# EAGLE library part TDA7052 (library KwanSystems)
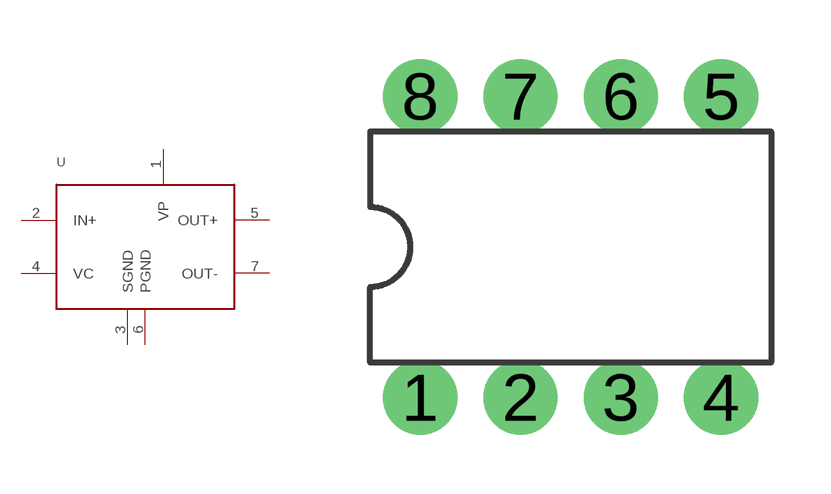
[diagram p12: symbol with the pads of DIL-8; footprint DIL-8]

Designator prefix -

## TDA7052  [DIL-8]
1  VP
2  IN+
3  SGND
4  VC
5  OUT+
6  PGND
7  OUT-

## Footprint DIL-8 (pad centres in mm)
drill 1.016 pad 1.88: 1 -3.81,-3.81; 2 -1.27,-3.81; 3 1.27,-3.81; 4 3.81,-3.81; 5 3.81,3.81; 6 1.27,3.81; 7 -1.27,3.81; 8 -3.81,3.81